# Altium integrated library pwr_fpga.IntLib: 6 symbols
Pins are listed as number, name and electrical type; pins without a type are passive.

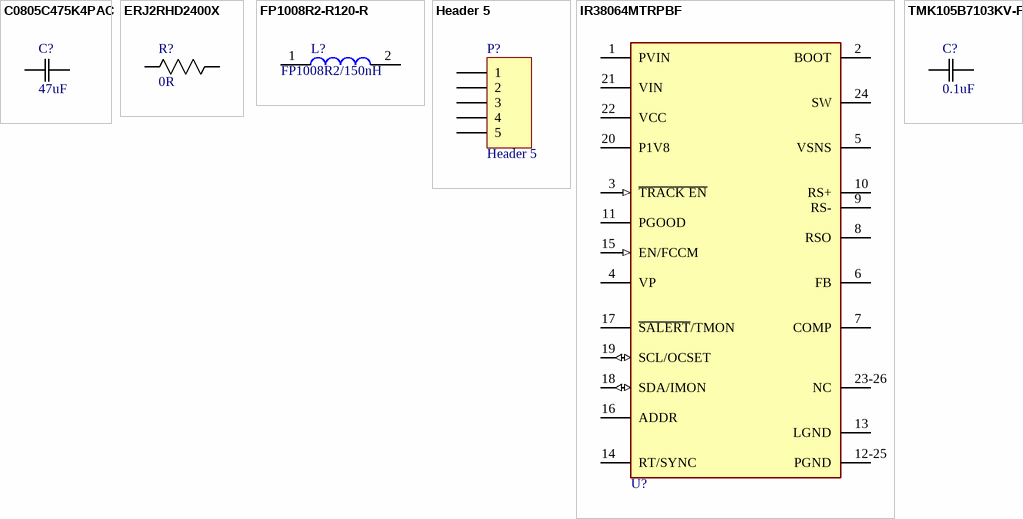
[diagram p0: symbols C0805C475K4PAC to TMK105B7103KV-F]

## C0805C475K4PAC
designator C?, comment 47uF
No Description Available; Manufacturer_Part_Number: C0805C475K4PAC; Vendor: Kemet; SourceLibrary: Kemet_2020-03-25_1b; Built_By: EMA_Frank; Type: DEV; Copyright: Copyright (C) 2018 Accelerated Designs. All rights reserved; RefDes: RefDes
footprint CAPC220145_140N_KEM
pins: 1, 2

## ERJ2RHD2400X
designator R?, comment 0R
No Description Available; Manufacturer_Part_Number: ERJ2RHD2400X; Vendor: Panasonic; Built_By: EMA_UL_Team; SourceLibrary: Panasonic_2016-11-1; Copyright: Copyright (C) 2018 Accelerated Designs. All rights reserved; RefDes: RefDes; Type: DEV
footprint 0402_PAN
pins: 1, 2

## FP1008R2-R120-R
designator L?, comment FP1008R2/150nH
Inductor; Manufacturer_Name: Eaton; Manufacturer_Part_Number: FP1008R2-R120-R; Datasheet Link: https://datasheet.octopart.com/FP1008R2-R120-R-Coiltronics-datasheet-49700686.pdf; Height: 8mm; Arrow Part Number: FP1008R2-R120-R; Mouser Part Number: 704-FP1008R2-R120-R; Mouser Price/Stock: https://www.mouser.com/Search/Refine.aspx?Keyword=704-FP1008R2-R120-R
footprint INDM10880X800N
pins: 1, 2

## Header 5
designator P?
Header, 5-Pin; LatestRevisionDate: 17-Jul-2002; LatestRevisionNote: Re-released for DXP Platform.; Publisher: Altium Limited
footprint HDR1X5 (Connector; Header; 5 Position)
signal-integrity model Connector
pins: 1, 2, 3, 4, 5

## IR38064MTRPBF
designator U?  (value not drawn)
footprint Infineon_Technologies_PG-IQFN-34_MFG
pins: 1 PVIN (power), 2 BOOT, 3 ~{TRACK EN} (in), 4 VP, 5 VSNS, 6 FB, 7 COMP, 8 RSO, 9 RS- (hiz), 10 RS+ (hiz), 11 PGOOD (oc), 12-25 PGND (power), 13 LGND (power), 14 RT/SYNC, 15 EN/FCCM (in), 16 ADDR, 17 ~{SALERT}/TMON (oc), 18 SDA/IMON (io), 19 SCL/OCSET (io), 20 P1V8 (power), 21 VIN (power), 22 VCC, 23-26 NC, 24 SW

## TMK105B7103KV-F
designator C?, comment 0.1uF
No Description Available; Manufacturer_Part_Number: TMK105B7103KV-F; Vendor: Taiyo Yuden; Built_By: EMA_UL_Team; SourceLibrary: Taiyo_Yuden_2018-10-17; Type: DEV; Copyright: Copyright (C) 2018 Accelerated Designs. All rights reserved; RefDes: RefDes
footprint cap_UMK105 CG080CV-F_TAY
pins: 1, 2